# EAGLE library part MCP23008 (library MIDI router parts)
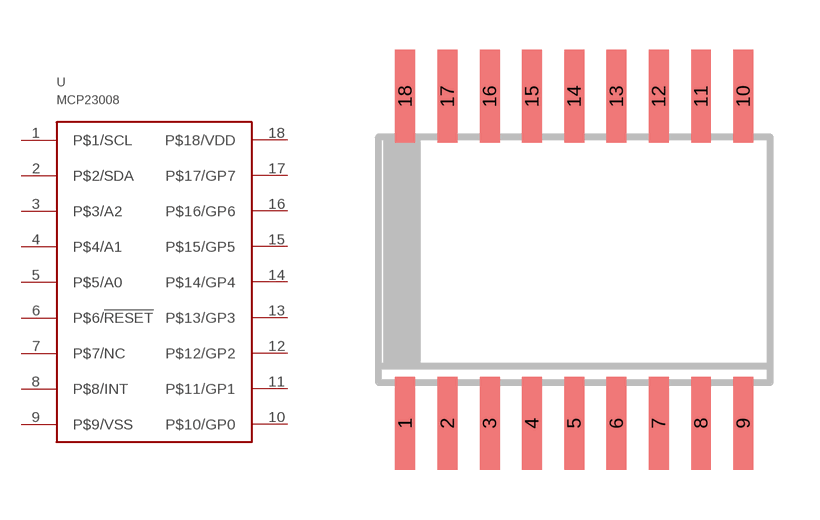
[diagram p13: symbol with the pads of MCP23008-SO18; footprint MCP23008-SO18]

Designator prefix -

## MCP23008  [MCP23008-SO18]
1  P$1/SCL
2  P$2/SDA
3  P$3/A2
4  P$4/A1
5  P$5/A0
6  P$6/!RESET
7  P$7/NC
8  P$8/INT
9  P$9/VSS
10  P$10/GP0
11  P$11/GP1
12  P$12/GP2
13  P$13/GP3
14  P$14/GP4
15  P$15/GP5
16  P$16/GP6
17  P$17/GP7
18  P$18/VDD

## Footprint MCP23008-SO18 (pad centres in mm)
SMALL OUTLINE INTEGRATED CIRCUIT wide body 7.5 mm/JEDEC MO-119AB Source: http://www.atmel.com/dyn/resources/prod_documents/doc4126.pdf
smd 0.6 x 2.789: 1 -8.255,-4.912; 2 -6.985,-4.912; 3 -5.715,-4.912; 4 -4.445,-4.912; 5 -3.175,-4.912; 6 -1.905,-4.912; 7 -0.635,-4.912; 8 0.635,-4.912; 9 1.905,-4.912; 10 1.905,4.912; 11 0.635,4.912; 12 -0.635,4.912; 13 -1.905,4.912; 14 -3.175,4.912; 15 -4.445,4.912; 16 -5.715,4.912; 17 -6.985,4.912; 18 -8.255,4.912